# Altium schematic symbol library LM3480IM3-5.0_NOPB.Schlib: 1 symbol
Pins are listed as number, name and electrical type; pins without a type are passive.

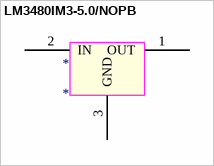
[diagram p0: symbol LM3480IM3-5.0/NOPB]

## LM3480IM3-5.0/NOPB
designator *
pins: 1 OUT, 2 IN, 3 GND